# EAGLE library part PORT_KB_VIC/64 (library commodore)
PIN HEADER
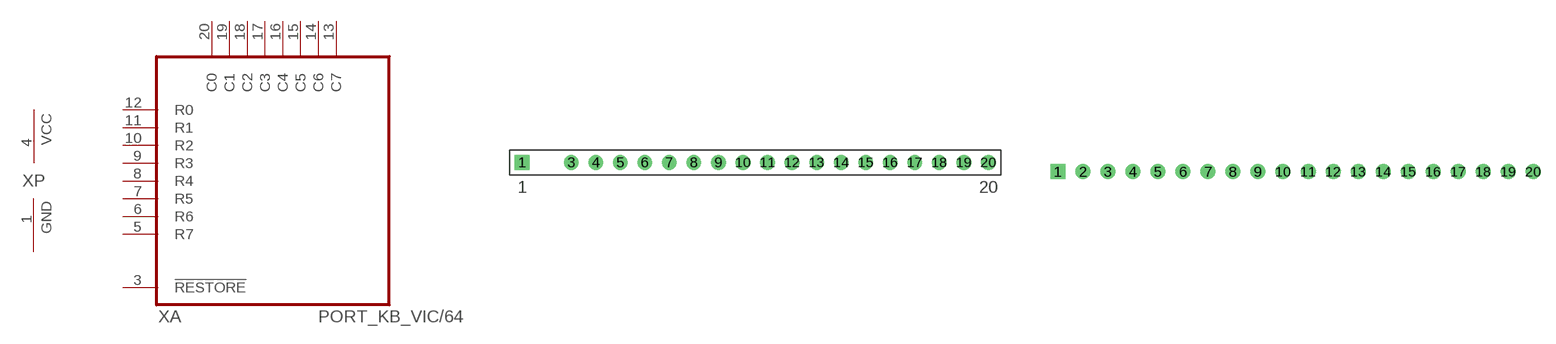
[diagram p57: symbol with the pads of MA100_20-1_KEYED; footprints MA100_20-1_KEYED, FE100_20-1]

Designator prefix X; gates A=PORT_KB_VIC/64 P=PWR-GND

## PORT_KB_VIC/64 (OC_FARNELL: unknown; OC_NEWARK: unknown)  [MA100_20-1_KEYED]
1  P:GND  pwr
3  A:!RESTORE  pas
4  P:VCC  pwr
5  A:R7  pas
6  A:R6  pas
7  A:R5  pas
8  A:R4  pas
9  A:R3  pas
10  A:R2  pas
11  A:R1  pas
12  A:R0  pas
13  A:C7  pas
14  A:C6  pas
15  A:C5  pas
16  A:C4  pas
17  A:C3  pas
18  A:C2  pas
19  A:C1  pas
20  A:C0  pas

## PORT_KB_VIC/64-R  [FE100_20-1]
Pads as for MA100_20-1_KEYED

## Footprint MA100_20-1_KEYED (pad centres in mm)
PIN HEADER
drill 1.016 square: 1 -24.13,0
drill 1.016: 3 -19.05,0; 4 -16.51,0; 5 -13.97,0; 6 -11.43,0; 7 -8.89,0; 8 -6.35,0; 9 -3.81,0; 10 -1.27,0; 11 1.27,0; 12 3.81,0; 13 6.35,0; 14 8.89,0; 15 11.43,0; 16 13.97,0; 17 16.51,0; 18 19.05,0; 19 21.59,0; 20 24.13,0

## Footprint FE100_20-1 (pad centres in mm)
PIN HEADER
drill 1.016 square: 1 -24.13,0
drill 1.016: 2 -21.59,0; 3 -19.05,0; 4 -16.51,0; 5 -13.97,0; 6 -11.43,0; 7 -8.89,0; 8 -6.35,0; 9 -3.81,0; 10 -1.27,0; 11 1.27,0; 12 3.81,0; 13 6.35,0; 14 8.89,0; 15 11.43,0; 16 13.97,0; 17 16.51,0; 18 19.05,0; 19 21.59,0; 20 24.13,0